# Altium schematic symbol library Schlib.SchLib: 1 symbol
Pins are listed as number, name and electrical type; pins without a type are passive.

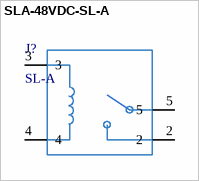
[diagram p0: symbol SLA-48VDC-SL-A]

## SLA-48VDC-SL-A
designator J?, comment SL-A
SLA-48VDC-SL-A
footprint RELAY-TH_SLA-XXVDC-SL-A
pins: 2, 3, 4, 5